# Altium schematic symbol library Schlib_Left.SchLib: 19 symbols
Pins are listed as number, name and electrical type; pins without a type are passive.

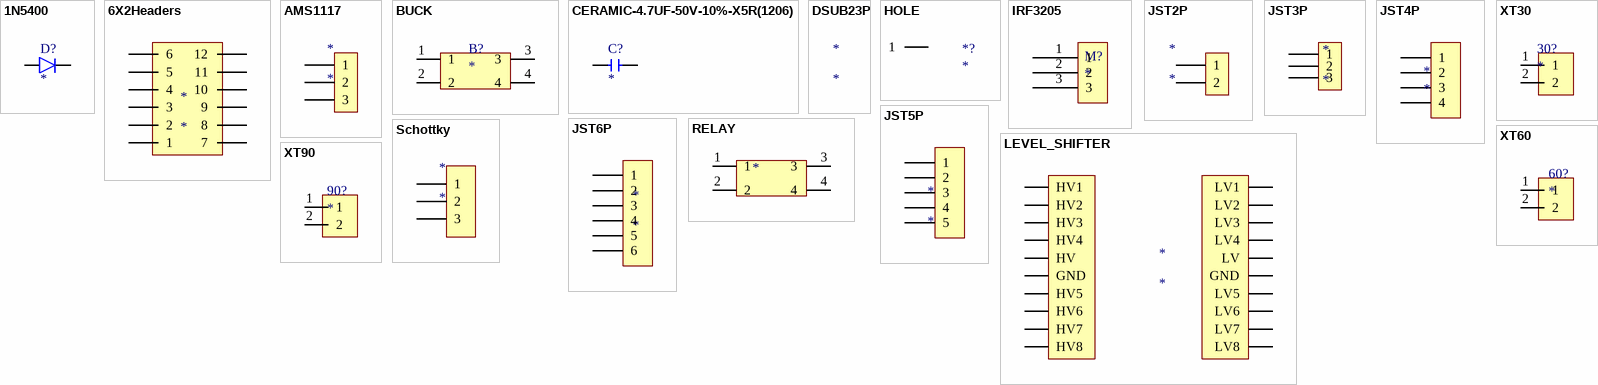
[diagram p0: symbols 1N5400 to XT90]

## 1N5400
designator D?
Diode Standard 50 V 3A Through Hole DO-201AD; MF: Diodes Inc.; MP: 1N5400-T; SnapEDA_Link: https://www.snapeda.com/parts/1N5400-T/Diodes+Inc./view-part/?ref=snap; Package: DO-201 Diodes Inc.; Value: *; Check_prices: https://www.snapeda.com/parts/1N5400-T/Diodes+Inc./view-part/?ref=eda
footprint DO201-15
pins: A, C

## 6X2Headers
designator *
footprint 6x2Header
pins: 1, 2, 3, 4, 5, 6, 7, 8, 9, 10, 11, 12

## AMS1117
designator *
footprint AMS1117
pins: 1, 2, 3

## BUCK
designator B?
footprint BUCKY
pins: 1 "Cathode", 2 "Cathode", 3 "Cathode", 4 "Cathode"

## CERAMIC-4.7UF-50V-10%-X5R(1206)
designator C?
4.7 ÂµF Â±10% 50V Ceramic Capacitor X5R 1206 (3216 Metric); MF: Yageo; MP: CC1206KKX5R9BB475; SnapEDA_Link: https://www.snapeda.com/parts/CC1206KKX5R9BB475/Yageo/view-part/?ref=snap; Package: SMD-2 Yageo; Value: *; Check_prices: https://www.snapeda.com/parts/CC1206KKX5R9BB475/Yageo/view-part/?ref=eda
footprint CAP0805
pins: 1, 2

## DSUB23P
designator *

## HOLE
designator *?
footprint HOLE
pins: 1 "Cathode"

## IRF3205
designator M?
footprint IRF3205
pins: 1, 2, 3

## JST2P
designator *
footprint JST2P
pins: 1, 2

## JST3P
designator *
footprint JST3P
pins: 1, 2, 3

## JST4P
designator *
footprint JST4P
pins: 1, 2, 3, 4

## JST5P
designator *
footprint JST5P
pins: 1, 2, 3, 4, 5

## JST6P
designator *
footprint JST6P
pins: 1, 2, 3, 4, 5, 6

## LEVEL_SHIFTER
designator *
footprint LEVEL_SHIFTER
pins: GND "Cathode", GND "Cathode", HV "Cathode", HV1 "Cathode", HV2 "Cathode", HV3 "Cathode", HV4 "Cathode", HV5 "Cathode", HV6 "Cathode", HV7 "Cathode", HV8 "Cathode", LV "Cathode", LV1 "Cathode", LV2 "Cathode", LV3 "Cathode", LV4 "Cathode", LV5 "Cathode", LV6 "Cathode", LV7 "Cathode", LV8 "Cathode"

## RELAY
designator *
Power Relay SPDT 30A 24V; Manufacturer: TE Connectivity; Manufacturer Part Number: V23134A4064X551-EV-CBOX; Supplier 1: Digikey; RoHS: No; Stock 1: 33; Pricing 1: 1=21.98, 10=19.576, 25=18.6936, 50=18.0516, 110=17.34791, 330=16.41191, 550=15.99385 (USD); Supplier Part Number 1: 41-V23134A4064X551-EV-CBOX-ND
footprint Relay
pins: 1 "Cathode", 2 "Cathode", 3 "Cathode", 4 "Cathode"

## Schottky
designator *
footprint schottky diode
pins: 1, 2, 3

## XT30
designator 30?
footprint XT30_FEMALE
pins: 1 "Cathode", 2 "Cathode"

## XT60
designator 60?
footprint XT60_FEMALE
pins: 1 "Cathode", 2 "Cathode"

## XT90
designator 90?
footprint XT90_FEMALE
pins: 1 "Cathode", 2 "Cathode"